# EAGLE library part LCD12864 (library Btz)
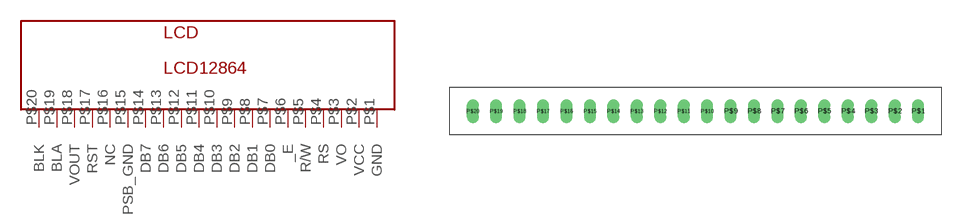
[diagram p0: symbol with the pads of PINHEAD1X20; footprint PINHEAD1X20]

Designator prefix LCD

## LCD12864  [PINHEAD1X20]
P$1  GND  sup
P$2  VCC  pwr
P$3  VO
P$4  RS
P$5  R/W  in
P$6  _E
P$7  DB0
P$8  DB1
P$9  DB2
P$10  DB3
P$11  DB4
P$12  DB5
P$13  DB6
P$14  DB7
P$15  PSB_GND
P$16  NC
P$17  RST
P$18  VOUT
P$19  BLA
P$20  BLK

## Footprint PINHEAD1X20 (pad centres in mm)
drill 0.8 long: P$1 25.4,0; P$2 22.86,0; P$3 20.32,0; P$4 17.78,0; P$5 15.24,0; P$6 12.7,0; P$7 10.16,0; P$8 7.62,0; P$9 5.08,0; P$10 2.54,0; P$11 0,0; P$12 -2.54,0; P$13 -5.08,0; P$14 -7.62,0; P$15 -10.16,0; P$16 -12.7,0; P$17 -15.24,0; P$18 -17.78,0; P$19 -20.32,0; P$20 -22.86,0